# Altium integrated library Headnode.IntLib: 40 symbols
Pins are listed as number, name and electrical type; pins without a type are passive.

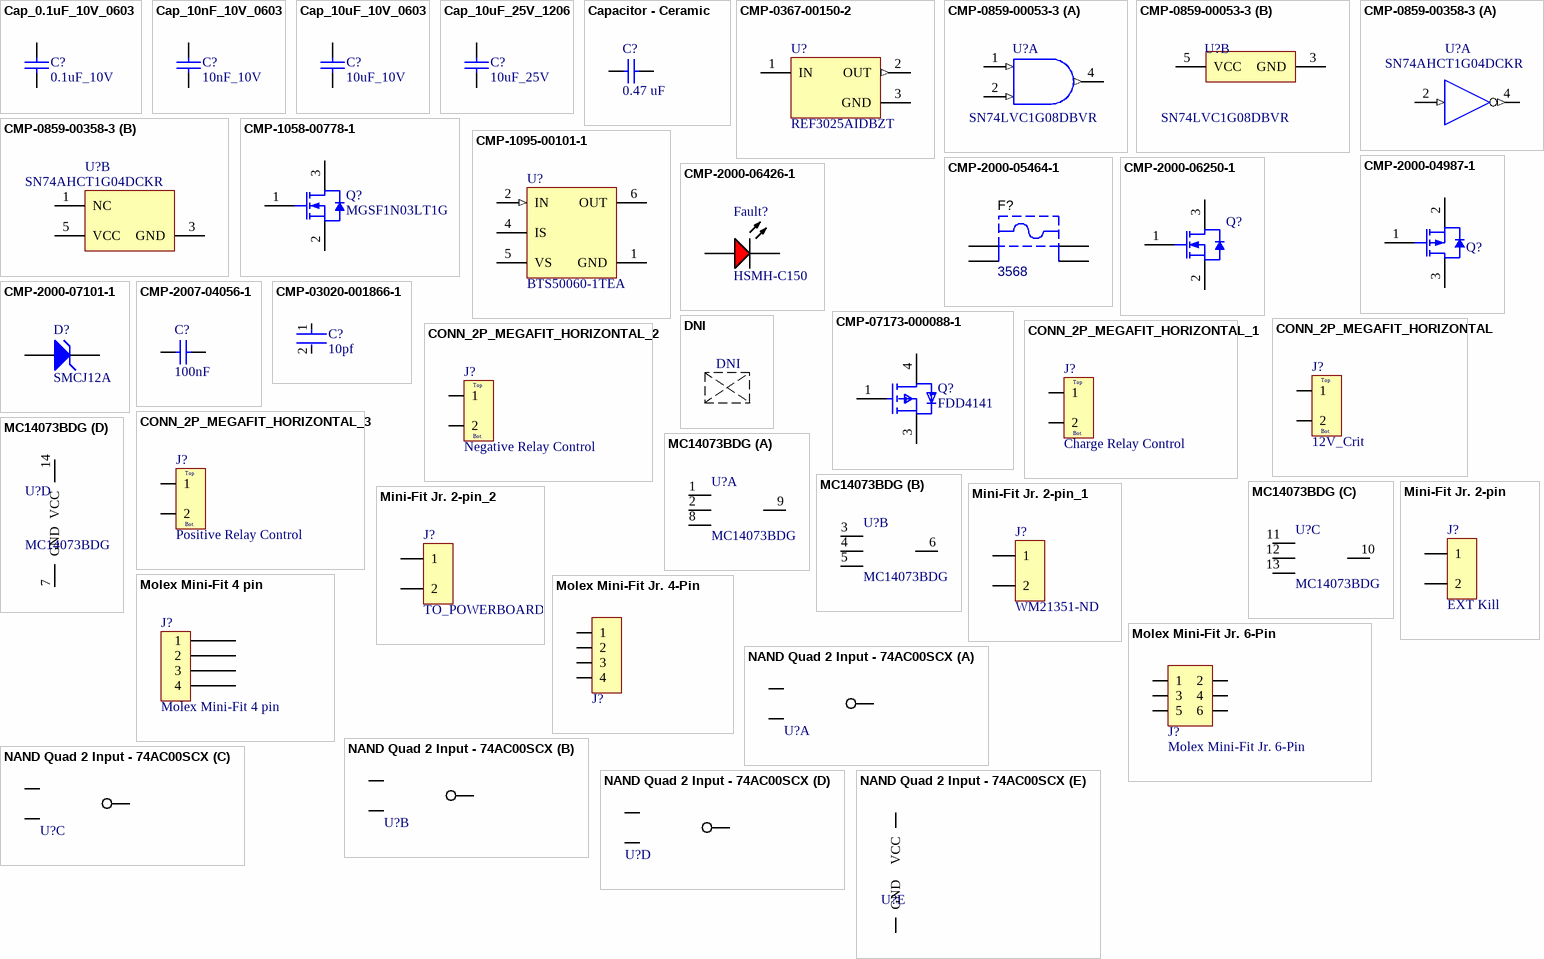
[diagram p0: symbols Cap_0.1uF_10V_0603 to NAND Quad 2 Input - 74AC00SCX]

## Cap_0.1uF_10V_0603
designator C?  SchematicInformation: 0.1uF_10V  (hidden comment: Cap_0.1uF_10V_0603)
Manufacturer Part Number: 885012206020; Manufacturer: Würth Elektronik; Dielectric: X7R
footprint C_0603 (0603 Style B SMT capacitor)
pins: 1, 1, 2, 2

## Cap_10nF_10V_0603
designator C?  SchematicInformation: 10nF_10V  (hidden comment: Cap_10nF_10V_0603)
Manufacturer Part Number: CC0603KRX7R6BB103; Manufacturer: Yageo; Dielectric: X7R
footprint C_0603 (0603 Style B SMT capacitor)
pins: 1, 2

## Cap_10uF_10V_0603
designator C?  SchematicInformation: 10uF_10V  (hidden comment: Cap_10uF_10V_0603)
Manufacturer Part Number: GRM188R61A106ME69D; Manufacturer: Murata Electronics; Dielectric: X5R
footprint C_0603 (0603 Style B SMT capacitor)
pins: 1, 2

## Cap_10uF_25V_1206
designator C?  SchematicInformation: 10uF_25V  (hidden comment: Cap_10uF_25V_1206)
Manufacturer Part Number: CL31A106KAHNNNE; Manufacturer: Samsung Electro-Mechanics; Dielectric: X5R
footprint C_1206 (1206 SMT capacitor)
pins: 1, 2

## Capacitor - Ceramic
designator C?  value 0.47 uF  (hidden comment: Capacitor - Ceramic)
Digikey: ?; Datasheet: ?
footprint 0603C (0603)
footprint C_0603 (0603 Style B SMT capacitor)
pins: 1, 2

## CMP-0367-00150-2
designator U?, comment REF3025AIDBZT
2.5 V, 50 ppm / degC, 50 uA Series (Bandgap) Voltage Reference, -40 to 125 degC, 3-pin SOT-23 (DBZ), Green (RoHS & no Sb/Br); Manufacturer: Texas Instruments; VI(Min)(V): 2.501; Initial Accuracy @ 25/deg C(%): 0.2; Rating: Catalog; VO(V): 2.5; Iq(Max)(uA): 50; Temp Coeff(Typ)(ppm/ degree C): 20; SubFamily: Series Voltage Reference; VI(Max)(V): 5.5; ComponentLink4Description: URL Link1; PartNumber: REF3025AIDBZT; ComponentLink1URL: http://www.ti.com/; Eco-Plan: Green (RoHS & no Sb/Br); ComponentLink3URL: http://www.ti.com/litv/pdf/mpds108a; Mounting Technology: Surface Mount; ComponentLink3Description: Package Specification; PackageDescription: 3-Pin Plastic Small Outline, Body 2.92 x 1.3 mm, Pitch 0.95 mm; PackageReference: DBZ0003A; Code_JEDEC: TO-236; Temp Coeff(Max)(ppm/ degree C): 50; ComponentLink4URL: Samples URL:http://www.ti.com/product/ref3025; ComponentLink2Description: Datasheet; ComponentLink2URL: http://www.ti.com/general/docs/lit/getliterature.tsp?genericPartNumber=REF3025&fileType=pdf; PackageVersion: 4203227/B; ComponentLink1Description: Manufacturer URL; DatasheetVersion: SBVS032F; Manufacturer Part Number: REF3025AIDBZT
footprint DBZ0003A_N (SOT23, 3-Leads, Body 3.04x1.4mm, Pitch 0.95mm, IPC Medium Density)
footprint DBZ0003A_M (SOT23, 3-Leads, Body 3.04x1.4mm, Pitch 0.95mm, IPC Low Density)
footprint DBZ0003A_L (SOT23, 3-Leads, Body 3.04x1.4mm, Pitch 0.95mm, IPC High Density)
pins: 1 IN (power), 2 OUT (out), 3 GND (power)

## CMP-0859-00053-3
designator U?, comment SN74LVC1G08DBVR
Single 2-Input Positive-AND Gate, DBV0005A, LARGE T&R; Manufacturer: Texas Instruments; Logic: True; ICC @ Nom Voltage(Max)(mA): 0.01; VCC(Min)(V): 1.65; Bits(#): 1; Rating: Catalog; Schmitt Trigger: No; Voltage(Nom)(V): 1.8,2.5,3.3,5; Output Drive (IOL/IOH)(Max)(mA): 32/-32; Gate Type: AND; tpd @ Nom Voltage(Max)(ns): 4.5,6,4,5; VCC(Max)(V): 5.5; Output Type: CMOS; F @ Nom Voltage(Max)(Mhz): 150; Input Type: CMOS/TTL; Technology Family: LVC; Sub-Family: AND Gate; PackageReference: DBV0005A; Generic Part Number: SN74LVC1G08; Operating Temperature Range(C): -40 to 125,-40 to 85; 3-State Output: No; DatasheetVersion: SCES217Y; Manufacturer Part Number: SN74LVC1G08DBVR
footprint DBV0005A_M (SOT23, 5-Leads, Body 3.05x1.75mm, Pitch 0.95mm, IPC Low Density)
footprint DBV0005A_N (SOT23, 5-Leads, Body 3.05x1.75mm, Pitch 0.95mm, IPC Medium Density)
footprint DBV0005A_L (SOT23, 5-Leads, Body 3.05x1.75mm, Pitch 0.95mm, IPC High Density)
part A pins: 1 A (in) "Input A", 2 B (in) "Input B", 4 Y (out) "Output Y"
part B pins: 3 GND (power) "Ground Pin", 5 VCC (power) "Power Pin"

## CMP-0859-00358-3
designator U?, comment SN74AHCT1G04DCKR
Single Inverter Gate, DCK0005A, LARGE T&R; Manufacturer: Texas Instruments; VCC(Min)(V): 2; Rating: Catalog; tpd @ Nom Voltage(Max)(ns): 7.5; F @ Nom Voltage(Max)(Mhz): 75; Schmitt Trigger: No; Output Type: CMOS; Logic: Inverting; VCC(Max)(V): 5.5; Sub-Family: Inverting Buffer/Driver; Bits(#): 1; Technology Family: AHCT; Voltage(Nom)(V): 5; Output Drive (IOL/IOH)(Max)(mA): 8/-8; ICC @ Nom Voltage(Max)(mA): 0.01; Input Type: CMOS; DatasheetVersion: SCLS319P; Operating Temperature Range(C): -40 to 125; Generic Part Number: SN74AHCT1G04; PackageReference: DCK0005A; 3-State Output: No; Manufacturer Part Number: SN74AHCT1G04DCKR
footprint DCK0005A_L (SOT23, 5-Leads, Body 2.15x1.4mm, Pitch 0.65mm, IPC High Density)
footprint DCK0005A_N (SOT23, 5-Leads, Body 2.15x1.4mm, Pitch 0.65mm, IPC Medium Density)
footprint DCK0005A_M (SOT23, 5-Leads, Body 2.15x1.4mm, Pitch 0.65mm, IPC Low Density)
part A pins: 2 A (in) "Input A", 4 Y (out) "Output Y"
part B pins: 1 NC "Ground", 3 GND (power) "Ground Pin", 5 VCC (power) "Power Pin"

## CMP-1058-00778-1
designator Q?, comment MGSF1N03LT1G
Power MOSFET, 30 V, 2.1 A, Single N-Channel, 3-Pin SOT-23, Pb-Free, Tape and Reel; Manufacturer: On Semiconductor; VGS(th) Max (V): 2.4; Channel Polarity: N Channel; Ciss Typ (pF): 140; Crss Typ (pF): 40; Coss Typ (pF): 100; V(BR)DSS Min (V): 30; ID Max (A): 2.1; VGS Max (V): 20; ComponentLink1Description: Manufacturer URL; PartNumber: MGSF1N03LT1G; Packing: Tape and Reel; DatasheetVersion: Rev. 10; ComponentLink1URL: http://www.onsemi.com/; Mounting Technology: Surface Mount; PackageVersion: Rev. AP, 11/2009; PackageDescription: 3-Pin Small Outline Transistor, Body 2.92 x 1.3 mm, Pitch 0.95 mm; Package Type: SOT-23-3; ComponentLink3URL: http://www.onsemi.cn/pub_link/Collateral/318-08.PDF; RoHS: Pb-Free; ComponentLink3Description: Package Specification; ComponentLink2Description: Datasheet; Configuration: Single; PackageReference: SOT-23-3-318-08; ComponentLink2URL: http://www.onsemi.cn/pub_link/Collateral/MGSF1N03LT1-D.PDF; Manufacturer: ON Semiconductor; Manufacturer Part Number: MGSF1N03LT1G
footprint ONSC-SOT-23-3-318-08_V (SOT23, 3-Leads, Body 2.92x1.3mm, Pitch 0.95mm)
pins: 1 G, 2 S, 3 D

## CMP-1095-00101-1
designator U?, comment BTS50060-1TEA
High Current PROFET Smart High-Side Power Switch, 1 Channel, 16.5 A Load Current, -40 to 150 degC, PG-TO252-5-11, Reel, Green; Manufacturer: Infineon; Manufacturer Part Number: BTS500601TEAAUMA2; ton (max): 130 us; Channels: 1; Recommended Operating Voltage Max.: 28 V; toff (max): 150 us; RON @ 25degreesC: 6 mOhm; Recommended Operating Voltage Min.: 4.7 V; Green: TRUE; RON(max) @ 150degreesC: 12 mOhm; Load Current (typ): 16.5 A; Group: Automotive Qualified; PackageDescription: 5-Pin Plastic (Green) Transistor Single Outline Package, 6.5 x 6.12 mm Body, 1.14 mm Pitch; PackageVersion: Sep-11; ComponentLink2Description: Datasheet; Mounting Technology: Surface Mount; ComponentLink2URL: http://www.infineon.com/dgdl/BTS50060-1TEA_DS_v12_2011-09-01.pdf?folderId=db3a304314dca389011537739e37155f&fileId=db3a30432ac1eb91012ad29559f104ad&location=en.Products.Automotive_ICs.Smart_High-_and_Low-Side_Switches.PROFET__-_Smart_High_Side_Switches.DATA; DatasheetVersion: Rev.1.2; PartNumber: BTS50060-1TEA; ComponentLink3URL: http://www.infineon.com/dgdl/BTF50060-1TEA_DS_v12_2011-09-01.pdf?folderId=db3a304314dca389011537739e37155f&fileId=db3a30432ad629a6012b0a94d88d3f2e&sId=db3a30433db6f09f013dc356c9f93bd9; Halogen-free: TRUE; PackageReference: PG-TO252-5-11; ComponentLink3Description: Package Specification; ComponentLink1Description: Manufacturer URL; ComponentLink1URL: http://www.infineon.com/; Packing: Reel
footprint INF-PG-TO252-5_BTF50060_L (DPAK, 5-Leads, Body 6.5x6.12mm, Pitch 1.14mm, IPC High Density)
footprint INF-PG-TO252-5_BTF50060_M (DPAK, 5-Leads, Body 6.5x6.12mm, Pitch 1.14mm, IPC Low Density)
footprint INF-PG-TO252-5_BTF50060_N (DPAK, 5-Leads, Body 6.5x6.12mm, Pitch 1.14mm, IPC Medium Density)
pins: 1 GND (power) "Ground; Ground connection for control chip.", 2 IN (in) "Input; Digital 3.3 V and 5 V compatible logic input; activates power switch if set to HIGH level; Includes internal pull-down resistor RIN.", 4 IS (hiz) "Sense; Provides analog sense current signal and defined fault signal.", 5 VS (power) "Supply Voltage; Positive Supply Voltage for Logic and Power Stage.", 6 OUT (power) "Output; Protected high side power output."

## CMP-2000-04987-1
designator Q?
HEXFET(R) Power P-Channel MOSFET, -20 V, -3.7 A, -55 to 150 degC, 3-Pin SOT-23, RoHS, Tape and Reel; Manufacturer: International Rectifier; Manufacturer Part Number: IRLML6402TRPBF; Drain-to-Source Voltage [Vdss]: 20V; Rated Power Dissipation: 1.3W; Qg Gate Charge: 8nC; Drain-Source On Resistance-Max: 0.065O; Channel Type: P-Channel; Package Reference: SOT-23-3; Manufacturer URL: http://internationalrectifier.com/; Datasheet URL: http://datasheet.octopart.com/IRLML6402TRPBF-International-Rectifier-datasheet-93882.pdf; Datasheet Version: Feb-05; Package Description: 3-Pin Small Outline Transistor, Body 2.92 x 1.3 mm, Pitch 0.95 mm
footprint INTR-SOT-23-3_V (SOT23, 3-Leads, Body 2.92x1.3mm, Pitch 1.9mm)
pins: 1 GATE, 2 SOURCE, 3 DRAIN

## CMP-2000-05464-1
designator F?, comment 3568
Fuse Holder, 20 A, 500 V, -50 to 145 degC, 4-Pin THD, RoHS; Manufacturer: Keystone; Manufacturer: Keystone Electronics; Package Reference: 3568; Datasheet Version: 04/2013; Datasheet URL: https://datasheet.ciiva.com/16294/m60-2p40-16294706.pdf; Manufacturer URL: http://www.keyelco.com/; Mounting Technology: ThroughHole; Package Description: 4-Pin Through Hole Device, Body 16 x 6.73 mm, Pitch 9.9 mm; Manufacturer Part Number: 3568
footprint KSTN-3568_V (THD, 4-Leads, Body 16x6.73mm, Pitch 9.9mm)
pins: 1, 2, 3, 4

## CMP-2000-06250-1
designator Q?, comment FDN337N  (value not drawn)
N-Channel Logic Level Enhancement Mode Field Effect Transistor,2.2 A, 30 V, -55 to 150 degC, 3-Pin SOT-23, RoHS, Tape and Reel; Manufacturer: Fairchild Semiconductor; Manufacturer: ON Semiconductor / Fairchild; Transistor Polarity: NChannel; RDS(on): 0.082Ohm; External Depth: 2.5mm; Reel Quantity: 3000; Threshold Voltage Vgs Typ: 700mV; Current Id Max: 2.2A; External Length / Height: 1.12mm; No. of Pins: 3; Vgss: +/-8V; Voltage Vgs Rds on Measurement: 4.5V; Power Dissipation Pd: 500mW; Full Power Rating Temperature: 25°C; Pulse Current Idm: 10A; Vdss: 30V; Continuous Drain Current Id: 2.5A; SMD Marking: 337; No. of Transistors: 1; SVHC: NoSVHC(19-Dec-2012); Package Version: Rev. 3, 05/2015; Vth: 0.7V; Drain Source Voltage Vds: 20V; On Resistance Rds(on): 52mohm; Trr: 10ns; External Width: 3.05mm; Operating Temperature Range: -55°Cto+150°C; Operating Temperature Min: -55°C; Package / Case: SOT-23; Operating Temperature Max: 150°C; Manufacturer URL: https://www.fairchildsemi.com/; Id: 2.2A; Mounting Technology: SurfaceMount; Rds(on) Test Voltage Vgs: 4.5V; Voltage Vds Typ: 30V; Datasheet Version: Rev. C, 03/1998; Transistor Case Style: SOT-23; Termination Type: SMD; Package Reference: SSOT3L; Package Description: 3-Pin Small Outline Transistor, Body 2.92 x 1.4 mm, Pitch 0.95 mm; Voltage Vgs Max: 700mV; Tape Width: 8mm; Datasheet URL: https://www.fairchildsemi.com/datasheets/FD/FDN337N.pdf; Package URL: https://www.fairchildsemi.com/package-drawings/MA/MA03B.pdf; Current Temperature: 25°C; Manufacturer Part Number: FDN337N
footprint FAIR-SSOT3L-3_V (SOT23, 3-Leads, Body 2.92x1.4mm, Pitch 0.95mm)
pins: 1 G, 2 S, 3 D

## CMP-2000-06426-1
designator Fault?, comment HSMH-C150
LED Uni-Color Red, 65 mW, 25 mA, -40 to 85 degC, 2-Pin SMD, RoHS, Tape and Reel; Manufacturer: Avago; Manufacturer: Broadcom Avago; Product Height (mm): 1.1mm; Power Dissipation: 78W; Product Length (mm): 3.2mm; Forward Voltage: 2.6V; Luminous Intensity: 17mcd; DELETED: Compliant; Shape Type: Rectangular; Peak Wavelength: 660nm; Main Category: ChipLED; Dominant Wave Length: 639nm; Rad Hardened: No; Lens Type: ColorlessDiffused; Product Depth (mm): 1.6mm; Reverse Voltage: 5V; Forward Current: 25mA; Chip Material: GaAlAs; Test Current (It): 20mA; Viewing Angle: 170deg; Number of  Elements: 1; Type: Uni-Color; Package Reference: HSMX-C150; Package Description: 2-Pin Surface Mount Device, Body 3.2 x 1.6 mm; Operating Temp Range: -40Cto85C; Mounting: SurfaceMount; Emitting Color: Red; Pin Count: 2; Operating Temperature Classification: Industrial; Datasheet URL: http://media.digikey.com/pdf/Data%20Sheets/Avago%20PDFs/HSMz-Czzz.pdf; Package Type: ChipLed; Mounting Technology: SurfaceMount; High Brightness: No; Lens Dimensions: 2x1.6x0.6mm; Manufacturer URL: http://www.avagotech.com/; Lum Intensity: 17mcd; Datasheet Version: 03/2012; Packaging: TapeandReel; Manufacturer Part Number: HSMH-C150
footprint AVAG-HSMX-C150_V (SMD, 2-Leads, Body 3.2x1.6mm)
pins: 1 A, 2 K

## CMP-2000-07101-1
designator D?, comment SMCJ12A
Transient Voltage Suppression Diode, 12 V, -65 to 150 degC, 2-Pin DO-214AB (SMCJ), RoHS, Tape and Reel; Manufacturer: Littelfuse; Directional: Uni-Directional; Breakdown Voltage-Max: 14.7V; Clamping Voltage-Max: 19.9V; Breakdown Voltage-Min: 13.3V; Power Dissipation: 1500W; Manufacturer URL: http://www.littelfuse.com/; Datasheet Version: 11/2015; Package Description: 2-Pin Surface Mount Device, Body 6.855 x 5.905 mm; Package Reference: DO-214AB; Mounting Technology: SurfaceMount; Datasheet URL: http://www.littelfuse.com/products/tvs-diodes/surface-mount/~/media/electronics/datasheets/tvs_diodes/littelfuse_tvs_diode_smcj_datasheet.pdf.pdf; ComponentLink1Description: Datasheet; ComponentLink1URL: https://www.littelfuse.com/products/tvs-diodes/surface-mount/~/media/electronics/datasheets/tvs_diodes/littelfuse_tvs_diode_smcj_datasheet.pdf.pdf; ComponentLink2Description: Digikey; ComponentLink2URL: https://www.digikey.com/product-detail/en/SMCJ12A/SMCJ12ALFCT-ND/762588?utm_campaign=buynow&WT.z_cid=ref_octopart_dkc_buynow&utm_medium=aggregator&curr=usd&site=us&utm_source=octopart; Manufacturer Part Number: SMCJ12A
footprint LFUS-DO-214AB-2_V (Molded Diode, 2-Leads, Body 7.11x6.22mm)
pins: 1 A, 2 K

## CMP-2007-04056-1
designator C?, comment 100nF
TAJR104K035RNJ; Manufacturer: AVX Interconnect / Elco; Manufacturer: Kyocera AVX; Part Number: TAJR104K035RNJ; Manufacturer Part Number: TAJR104K035RNJ
footprint CAPC2113X120X50LL20T30 (Chip Capacitor, 2-Leads, Body 2.05x1.25mm, IPC High Density)
footprint CAPC2113X120X50NL20T30 (Chip Capacitor, 2-Leads, Body 2.05x1.25mm, IPC Medium Density)
footprint CAPC2113X120X50ML20T30 (Chip Capacitor, 2-Leads, Body 2.05x1.25mm, IPC Low Density)
pins: 1, 2
1 alternate drawing of the same symbol

## CMP-03020-001866-1
designator C?, comment 10pf
C0805 10 pF C0G 30ppm/°C 2.00% 50 V; Manufacturer Part Number: C0805C100G5GACTU; Manufacturer: KEMET; Tolerance: 0.02; Voltage Rating: 50 V; Material: Ceramic; Device Class L1: Passive Components; Category: Cap; Temperature: -55°C to +125°C; Height: 0.88mm; Ipc Land Pattern Name: CAPC200125X78; ComponentLink2URL: https://content.kemet.com/datasheets/KEM_C1003_C0G_SMD.pdf; Capacitance: 10 pF; Octopart: https://octopart.com/c0805c100g5gactu-kemet-20071675; Device Class L2: Capacitors; Device Class L3: Ceramic Capacitors; Temperature Range Low: -55°C; RoHS: TRUE; Temperature Range High: +125°C; Temperature Characteristic: C0G; Value: 10 pF; Mouser Description: Multilayer Ceramic Capacitors MLCC - SMD/SMT 50volts 10pF C0G 2%; ComponentLink2Description: Datasheet; Package: C0805C-DN; Lead Free: Yes; Automotive: No; Temperature Coefficient: 30ppm/°C
footprint FP-C0805C-DN-MFG
footprint FP-C0805C-DN-IPC_C
footprint FP-C0805C-DN-IPC_B
footprint FP-C0805C-DN-IPC_A
pins: 1, 2

## CMP-07173-000088-1
designator Q?, comment FDD4141
MOSFET P-CH 40V 10.8A DPAK; Manufacturer: ON Semiconductor; Manufacturer: ON Semiconductor / Fairchild; Gate Charge At Vgs: 36nC @ -10V; Transconductance: 38S; Drain To Source Breakdown Voltage: -40V; Reverse Recovery Time: 29ns; Pulse Drain Current: -100A; Reverse Recovery Charge: 26nC; Drain To Source Resistance: 10.1mΩ; Power Dissipation: 2.4W; Max Forward Diode Voltage: -1.2V; Turn Off Delay Time: 38ns; Number Of P Channels: 1; Gate To Source Voltage: 20V; Rthja Max: 52°C/W; Depletion Mode: False; Threshold Vgs Max: -3V; Threshold Vgs Min: -1V; Turn On Delay Time: 10ns; Max Junction Temp: +150°C; Input Capacitace At Vds: 2085pF @ -20V; Continuous Drain Current: -10.8A; Typ Forward Diode Voltage: -0.8V; Package: 369AS; Category: Diode; RoHS: TRUE; Device Class L2: Transistors; Octopart: https://octopart.com/fdd4141-on+semiconductor-84325802; Temperature: -55°C to +150°C; Drain To Source Voltage: -40V; Device Class L1: Discrete Semiconductors; Temperature Range Low: -55°C; Height: 2.517mm; ComponentLink2Description: Datasheet; Automotive: No; Number Of Channels: 1; Digikey Description: MOSFET P-CH 40V 10.8A DPAK; Lead Free: Yes; Manufacturer Part Number: FDD4141; Temperature Range High: +150°C; Footprint Url: https://www.onsemi.com/pub/Collateral/369AS.PDF; Device Class L3: MOSFETs; Mouser Description: MOSFET -40V P-Channel PowerTrench; ComponentLink2URL: https://www.onsemi.com/pub/Collateral/FDD4141-D.pdf
footprint FP-369AS-MFG
pins: 1 G, 3 S, 4 D

## CONN_2P_MEGAFIT_HORIZONTAL
designator J?, comment 12V_Crit
*; Manufacturer Part Number: 0768250002; Manufacturer: Molex; SchematicInformation: MegaFit_2P; DigiKey Part Number: WM11969-ND
footprint CONN_2P_MEGAFIT_HORIZONTAL
pins: 1, 2
text: Top; Bot.

## CONN_2P_MEGAFIT_HORIZONTAL_1
designator J?, comment Charge Relay Control
*; Manufacturer Part Number: 0768250002; Manufacturer: Molex; SchematicInformation: MegaFit_2P; DigiKey Part Number: WM11969-ND
footprint CONN_2P_MEGAFIT_HORIZONTAL
pins: 1, 2
text: Top; Bot.

## CONN_2P_MEGAFIT_HORIZONTAL_2
designator J?, comment Negative Relay Control
*; Manufacturer Part Number: 0768250002; Manufacturer: Molex; SchematicInformation: MegaFit_2P; DigiKey Part Number: WM11969-ND
footprint CONN_2P_MEGAFIT_HORIZONTAL
pins: 1, 2
text: Top; Bot.

## CONN_2P_MEGAFIT_HORIZONTAL_3
designator J?, comment Positive Relay Control
*; Manufacturer Part Number: 0768250002; Manufacturer: Molex; SchematicInformation: MegaFit_2P; DigiKey Part Number: WM11969-ND
footprint CONN_2P_MEGAFIT_HORIZONTAL
pins: 1, 2
text: Top; Bot.

## DNI
designator DNI??, comment DO NOT INSTALL  (value not drawn)  (graphical)

## MC14073BDG
designator U?
Triple 3-Input AND; ComponentLink1Description: Datasheet; ComponentLink1URL: http://www.onsemi.com/pub_link/Collateral/MC14001B-D.PDF; Drawn By: Aaron Mills; Drawing Date: Jan. 17, 2011
footprint SO14
part A pins: 1, 2, 8, 9
part B pins: 3, 4, 5, 6
part C pins: 10, 11, 12, 13
part D pins: 7 GND, 14 VCC

## Mini-Fit Jr. 2-pin
designator J?, comment EXT Kill
Mini-Fit Jr. 2-pin Right Angle; Manufacturer: Molex Inc; Manufacturer Part Number: 0039300020; Connector Type: Header, Shrouded; Number of Positions: 2; Number of Positions Loaded: All; Row Spacing: 0.165" (4.20mm); Ordering: http://search.digikey.com/scripts/DkSearch/dksus.dll?Detail&name=WM1351-ND; Datasheet: http://www.molex.com/pdm_docs/sd/039301020_sd.pdf; Supplier 1: Digi-Key; RoHS: RoHS Compliant; Category: Connectors, Interconnects; Stock 1: 371; Pricing 1: 1=0.77, 10=0.674, 50=0.6078, 100=0.5815, 250=0.5286, 500=0.47574, 1000=0.42288, 2500=0.38324, 5000=0.37002 (USD); Contact Type: Male Pin; Pitch: -; Number of Rows: 2; Contact Mating Length: -; Mounting Type: Through Hole, Right Angle; Termination: Solder; Fastening Type: Locking Ramp; Features: Board Lock; Contact Finish: Tin; Contact Finish Thickness: 200µin (5.08µm); Color: Natural; Packaging: Tray; ComponentLink1URL: http://www.molex.com/pdm_docs/sd/039300020_sd.pdf; ComponentLink1Description: http://www.molex.com/pdm_docs/sd/039300020_sd.pdf; Supplier Part Number 1: WM21351-ND
footprint Mini-Fit Jr. 2
pins: 1, 2

## Mini-Fit Jr. 2-pin_1
designator J?, comment Supplier Part Number 1: WM21351-ND  (hidden comment: Mini-Fit Jr. 2-pin)
Mini-Fit Jr. 2-pin Right Angle; Manufacturer: Molex Inc; Manufacturer Part Number: 0039300020; Connector Type: Header, Shrouded; Number of Positions: 2; Number of Positions Loaded: All; Row Spacing: 0.165" (4.20mm); Ordering: http://search.digikey.com/scripts/DkSearch/dksus.dll?Detail&name=WM1351-ND; Datasheet: http://www.molex.com/pdm_docs/sd/039301020_sd.pdf; Supplier 1: Digi-Key; RoHS: RoHS Compliant; Category: Connectors, Interconnects; Stock 1: 371; Pricing 1: 1=0.77, 10=0.674, 50=0.6078, 100=0.5815, 250=0.5286, 500=0.47574, 1000=0.42288, 2500=0.38324, 5000=0.37002 (USD); Contact Type: Male Pin; Pitch: -; Number of Rows: 2; Contact Mating Length: -; Mounting Type: Through Hole, Right Angle; Termination: Solder; Fastening Type: Locking Ramp; Features: Board Lock; Contact Finish: Tin; Contact Finish Thickness: 200µin (5.08µm); Color: Natural; Packaging: Tray; ComponentLink1URL: http://www.molex.com/pdm_docs/sd/039300020_sd.pdf; ComponentLink1Description: http://www.molex.com/pdm_docs/sd/039300020_sd.pdf
footprint Mini-Fit Jr. 2
pins: 1, 2

## Mini-Fit Jr. 2-pin_2
designator J?, comment TO_POWERBOARD
Mini-Fit Jr. 2-pin Right Angle; Manufacturer: Molex Inc; Manufacturer Part Number: 0039300020; Connector Type: Header, Shrouded; Number of Positions: 2; Number of Positions Loaded: All; Row Spacing: 0.165" (4.20mm); Ordering: http://search.digikey.com/scripts/DkSearch/dksus.dll?Detail&name=WM1351-ND; Datasheet: http://www.molex.com/pdm_docs/sd/039301020_sd.pdf; Supplier 1: Digi-Key; RoHS: RoHS Compliant; Category: Connectors, Interconnects; Stock 1: 371; Pricing 1: 1=0.77, 10=0.674, 50=0.6078, 100=0.5815, 250=0.5286, 500=0.47574, 1000=0.42288, 2500=0.38324, 5000=0.37002 (USD); Contact Type: Male Pin; Pitch: -; Number of Rows: 2; Contact Mating Length: -; Mounting Type: Through Hole, Right Angle; Termination: Solder; Fastening Type: Locking Ramp; Features: Board Lock; Contact Finish: Tin; Contact Finish Thickness: 200µin (5.08µm); Color: Natural; Packaging: Tray; ComponentLink1URL: http://www.molex.com/pdm_docs/sd/039300020_sd.pdf; ComponentLink1Description: http://www.molex.com/pdm_docs/sd/039300020_sd.pdf; Supplier Part Number 1: WM21351-ND
footprint Mini-Fit Jr. 2
pins: 1, 2

## Molex Mini-Fit 4 pin
designator J?
footprint Molex Mini-Fit Jr. 4-Pin - no flange (4-Pin Moles Mini-Fit Jr. Right Angle Header)
pins: 1, 2, 3, 4

## Molex Mini-Fit Jr. 4-Pin
designator J?, comment Molex Mini-Fit Jr. 4-Pin no flange  (value not drawn)
4-Pin Molex Mini-Fit Jr. Header; Manufacturer Part Number: 0039301040; Connector Type: Header, Shrouded; Number of Positions: 4; Number of Positions Loaded: All; Pitch: 0.165" (4.20mm); Drawn By: Aaron Mills; Drawing Date: Jan. 2, 2011; Manufacturer: Molex; ComponentLink1URL: http://www.molex.com/pdm_docs/sd/039295043_sd.pdf; ComponentLink1Description: Datasheet; Supplier1: http://search.digikey.com/us/en/products/39-30-1040/WM1352-ND/561079; Supplier 1: Digi-Key; RoHS: RoHS Compliant; Category: Connectors, Interconnects; Stock 1: 4191; Pricing 1: 1=0.77, 10=0.674, 25=0.6344, 50=0.6078, 100=0.5815, 250=0.5286, 500=0.47574, 1000=0.42288, 2500=0.38324 (USD); Contact Type: Male Pin; Number of Rows: 2; Row Spacing: 0.165" (4.20mm); Contact Mating Length: -; Mounting Type: Through Hole, Right Angle; Termination: Solder; Fastening Type: Locking Ramp; Features: Board Lock; Contact Finish: Tin; Contact Finish Thickness: 100µin (2.54µm); Color: Natural; Packaging: Tray; ComponentLink2URL: http://www.molex.com/pdm_docs/sd/039301040_sd.pdf; ComponentLink2Description: http://www.molex.com/pdm_docs/sd/039301040_sd.pdf; Supplier Part Number 1: WM1352-ND
footprint Molex Mini-Fit Jr. 4-Pin - no flange (4-Pin Moles Mini-Fit Jr. Right Angle Header)
pins: 1, 2, 3, 4

## Molex Mini-Fit Jr. 6-Pin
designator J?
6-Pin Molex Mini-Fit Jr. Header  through hole; Drawn By: Aaron Mills; Drawing Date: Jan. 2, 2011; Manufacturer: Molex; ComponentLink1URL: http://www.molex.com/pdm_docs/sd/039295063_sd.pdf; ComponentLink1Description: Datasheet; ComponentLink2Description: Mechanical Drawing; Supplier 1: http://search.digikey.com/scripts/DkSearch/dksus.dll?Detail&name=WM3922-ND
footprint Molex Mini-Fit Jr. 6-Pin (6-Pin Moles Mini-Fit Jr. Right Angle Header with PCB Flange)
pins: 1, 2, 3, 4, 5, 6

## NAND Quad 2 Input - 74AC00SCX
designator U?, comment Quad NAND Gate - 2 Input  (value not drawn)
Quad NAND Gate - 2 Input 74AC00SCX; Digikey: http://www.digikey.com/product-detail/en/fairchild-semiconductor/74AC00SCX/74AC00SCXCT-ND/1626130; Datasheet: https://www.fairchildsemi.com/datasheets/74/74ACT00.pdf; Supplier 1: Digikey; Supplier Part Number 1: 74AC00SCXCT-ND
footprint SO14
part A pins: 1, 2, 3
part B pins: 4, 5, 6
part C pins: 8, 9, 10
part D pins: 11, 12, 13
part E pins: 7 GND, 14 VCC

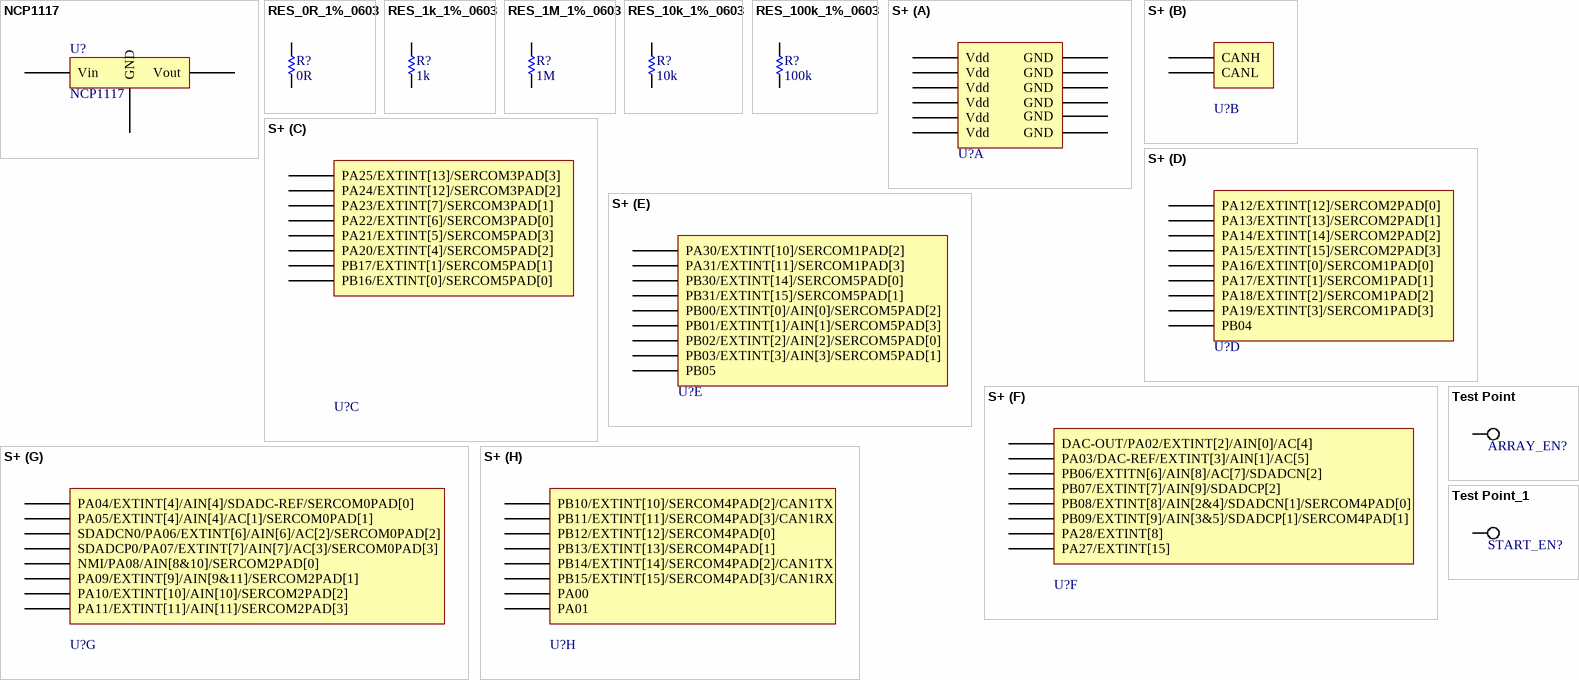
[diagram p1: symbols NCP1117 to Test Point_1]

## NCP1117
designator U?
ComponentLink1Description: Digikey; ComponentLink1URL: https://www.digikey.com/product-detail/en/on-semiconductor/NCP1117DT33T5G/NCP1117DT33T5GOSCT-ND/2121236
footprint NCP1117-DPAK
pins: 1 GND, 2 Vout, 3 Vin

## RES_0R_1%_0603
designator R?  SchematicInformation: 0R  (hidden comment: RES_0R_1%_0603)
Manufacturer Part Number: RC0603FR-070RL; Manufacturer: Yageo; DigiKey Part Number: 311-0.0HRCT-ND
footprint R_0603 (0603 SMT resistor)
pins: 1, 2

## RES_1k_1%_0603
designator R?  SchematicInformation: 1k  (hidden comment: RES_1k_1%_0603)
Manufacturer Part Number: RC0603FR-071KL; Manufacturer: Yageo; DigiKey Part Number: 311-1.00KHRCT-ND
footprint R_0603 (0603 SMT resistor)
pins: 1, 2

## RES_1M_1%_0603
designator R?  SchematicInformation: 1M  (hidden comment: RES_1M_1%_0603)
Manufacturer Part Number: RC0603FR-071ML; Manufacturer: Yageo; DigiKey Part Number: 311-1.00MHRCT-ND
footprint R_0603 (0603 SMT resistor)
pins: 1, 2

## RES_10k_1%_0603
designator R?  SchematicInformation: 10k  (hidden comment: RES_10k_1%_0603)
Manufacturer Part Number: RC0603FR-0710KL; Manufacturer: Yageo; DigiKey Part Number: 311-10.0KHRCT-ND
footprint R_0603 (0603 SMT resistor)
pins: 1, 2

## RES_100k_1%_0603
designator R?  SchematicInformation: 100k  (hidden comment: RES_100k_1%_0603)
Manufacturer Part Number: RC0603FR-07100KL; Manufacturer: Yageo; DigiKey Part Number: 311-100KHRCT-ND
footprint R_0603 (0603 SMT resistor)
pins: 1, 2

## S+
designator U?  (value not drawn)
Need to get 4 of PPPC161LFBN-RC; Digi-key: https://www.digikey.com/product-detail/en/sullins-connector-solutions/PPPC161LFBN-RC/S7049-ND/810188; datasheet: https://media.digikey.com/pdf/Data%20Sheets/Sullins%20PDFs/Female_Headers.100_DS.pdf
footprint Compute S+
part A pins: GND1 GND, GND2 GND, GND3 GND, GND4 GND, GND5 GND, GND6 GND, Vdd1 Vdd, Vdd2 Vdd, Vdd3 Vdd, Vdd4 Vdd, Vdd5 Vdd, Vdd6 Vdd
part B pins: CANH, CANL
part C pins: PA20 PA20/EXTINT[4]/SERCOM5PAD[2], PA21 PA21/EXTINT[5]/SERCOM5PAD[3], PA22 PA22/EXTINT[6]/SERCOM3PAD[0], PA23 PA23/EXTINT[7]/SERCOM3PAD[1], PA24 PA24/EXTINT[12]/SERCOM3PAD[2], PA25 PA25/EXTINT[13]/SERCOM3PAD[3], PB16 PB16/EXTINT[0]/SERCOM5PAD[0], PB17 PB17/EXTINT[1]/SERCOM5PAD[1]
part D pins: PA12 PA12/EXTINT[12]/SERCOM2PAD[0], PA13 PA13/EXTINT[13]/SERCOM2PAD[1], PA14 PA14/EXTINT[14]/SERCOM2PAD[2], PA15 PA15/EXTINT[15]/SERCOM2PAD[3], PA16 PA16/EXTINT[0]/SERCOM1PAD[0], PA17 PA17/EXTINT[1]/SERCOM1PAD[1], PA18 PA18/EXTINT[2]/SERCOM1PAD[2], PA19 PA19/EXTINT[3]/SERCOM1PAD[3], PB04
part E pins: PA30 PA30/EXTINT[10]/SERCOM1PAD[2], PA31 PA31/EXTINT[11]/SERCOM1PAD[3], PB00 PB00/EXTINT[0]/AIN[0]/SERCOM5PAD[2], PB01 PB01/EXTINT[1]/AIN[1]/SERCOM5PAD[3], PB02 PB02/EXTINT[2]/AIN[2]/SERCOM5PAD[0], PB03 PB03/EXTINT[3]/AIN[3]/SERCOM5PAD[1], PB05, PB30 PB30/EXTINT[14]/SERCOM5PAD[0], PB31 PB31/EXTINT[15]/SERCOM5PAD[1]
part F pins: PA02 DAC-OUT/PA02/EXTINT[2]/AIN[0]/AC[4], PA03 PA03/DAC-REF/EXTINT[3]/AIN[1]/AC[5], PA27 PA27/EXTINT[15], PA28 PA28/EXTINT[8], PB06 PB06/EXTITN[6]/AIN[8]/AC[7]/SDADCN[2], PB07 PB07/EXTINT[7]/AIN[9]/SDADCP[2], PB08 PB08/EXTINT[8]/AIN[2&4]/SDADCN[1]/SERCOM4PAD[0], PB09 PB09/EXTINT[9]/AIN[3&5]/SDADCP[1]/SERCOM4PAD[1]
part G pins: NMI NMI/PA08/AIN[8&10]/SERCOM2PAD[0], PA04 PA04/EXTINT[4]/AIN[4]/SDADC-REF/SERCOM0PAD[0], PA05 PA05/EXTINT[4]/AIN[4]/AC[1]/SERCOM0PAD[1], PA06 SDADCN0/PA06/EXTINT[6]/AIN[6]/AC[2]/SERCOM0PAD[2], PA07 SDADCP0/PA07/EXTINT[7]/AIN[7]/AC[3]/SERCOM0PAD[3], PA09 PA09/EXTINT[9]/AIN[9&11]/SERCOM2PAD[1], PA10 PA10/EXTINT[10]/AIN[10]/SERCOM2PAD[2], PA11 PA11/EXTINT[11]/AIN[11]/SERCOM2PAD[3]
part H pins: PA00, PA01, PB10 PB10/EXTINT[10]/SERCOM4PAD[2]/CAN1TX, PB11 PB11/EXTINT[11]/SERCOM4PAD[3]/CAN1RX, PB12 PB12/EXTINT[12]/SERCOM4PAD[0], PB13 PB13/EXTINT[13]/SERCOM4PAD[1], PB14 PB14/EXTINT[14]/SERCOM4PAD[2]/CAN1TX, PB15 PB15/EXTINT[15]/SERCOM4PAD[3]/CAN1RX
1 alternate drawing of the same symbol

## Test Point
designator ARRAY_EN?  (value not drawn)
footprint Test Point (Round Pad for Probing)
pins: 1

## Test Point_1
designator START_EN?, comment Test Point  (value not drawn)
footprint Test Point (Round Pad for Probing)
pins: 1